# EAGLE library part FXAS21000 (library Freescale_Sensors_v2)
Xtrinsic FXAS21000 3-Axis Rate Digital Gyroscope I2C and SPI interfaces 24-PIN QFN 4 mm x 4 mm x 1 mm CASE 2209-01
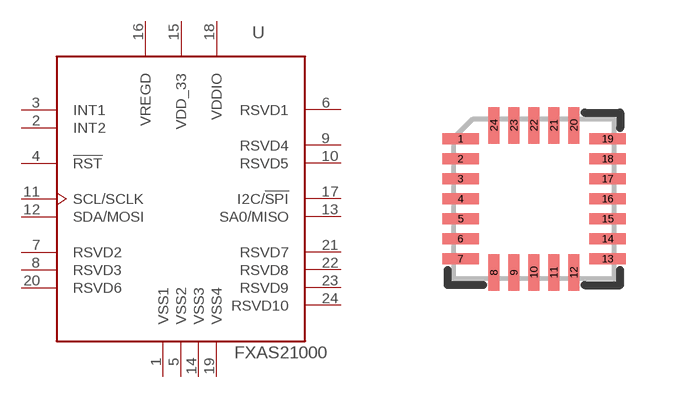
[diagram p3: symbol with the pads of QFN24_0P5_4X4_ASYM_EXP; footprint QFN24_0P5_4X4_ASYM_EXP]

Designator prefix -

## FXAS21000  [QFN24_0P5_4X4_ASYM_EXP]
1  VSS1  pwr
2  INT2  out
3  INT1  out
4  !RST  out
5  VSS2  pwr
6  RSVD1  pwr
7  RSVD2  pwr
8  RSVD3  pwr
9  RSVD4  pwr
10  RSVD5  pwr
11  SCL/SCLK  out
12  SDA/MOSI
13  SA0/MISO
14  VSS3  pwr
15  VDD_33  pwr
16  VREGD  pwr
17  I2C/!SPI  in
18  VDDIO  pwr
19  VSS4  pwr
20  RSVD6  pwr
21  RSVD7  pwr
22  RSVD8  pwr
23  RSVD9  pwr
24  RSVD10  pwr

## Footprint QFN24_0P5_4X4_ASYM_EXP (pad centres in mm)
smd 0.914 x 0.279: 1 -1.84,1.5; 2 -1.84,1; 3 -1.84,0.5; 4 -1.84,0; 5 -1.84,-0.5; 6 -1.84,-1; 7 -1.84,-1.5; 13 1.84,-1.5; 14 1.84,-1; 15 1.84,-0.5; 16 1.84,0; 17 1.84,0.5; 18 1.84,1; 19 1.84,1.5
smd 0.279 x 0.914: 8 -1,-1.84; 9 -0.5,-1.84; 10 0,-1.84; 11 0.5,-1.84; 12 1,-1.84; 20 1,1.84; 21 0.5,1.84; 22 0,1.84; 23 -0.5,1.84; 24 -1,1.84